# Altium schematic symbol library isa_opl2.SchLib: 20 symbols
Pins are listed as number, name and electrical type; pins without a type are passive.

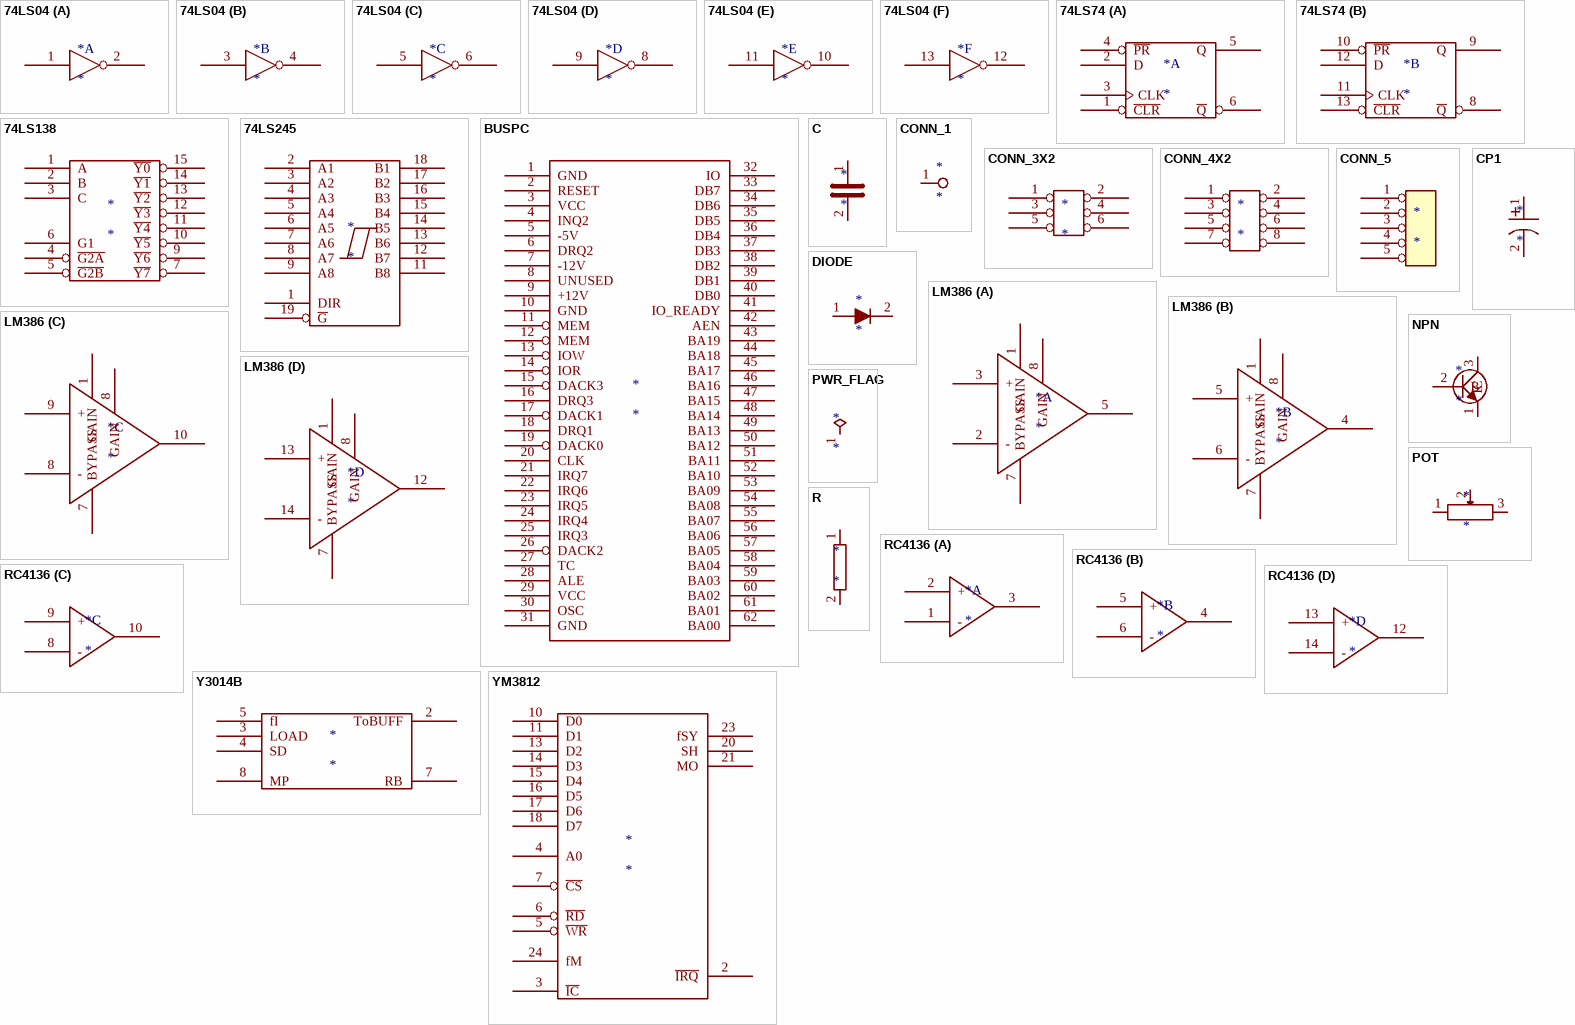
[diagram p0: symbols 74LS04 to YM3812]

## 74LS04
designator *
part A pins: 1, 2, 7 GND hidden, 14 VCC hidden
part B pins: 3, 4, 7 GND hidden, 14 VCC hidden
part C pins: 5, 6, 7 GND hidden, 14 VCC hidden
part D pins: 7 GND hidden, 8, 9, 14 VCC hidden
part E pins: 7 GND hidden, 10, 11, 14 VCC hidden
part F pins: 7 GND hidden, 12, 13, 14 VCC hidden
1 alternate drawing of the same symbol

## 74LS74
designator *
part A pins: 1 ~{CLR}, 2 D, 3 CLK, 4 ~{PR}, 5 Q, 6 ~{Q}, 7 GND hidden, 14 VCC hidden
part B pins: 7 GND hidden, 8 ~{Q}, 9 Q, 10 ~{PR}, 11 CLK, 12 D, 13 ~{CLR}, 14 VCC hidden

## 74LS138
designator *
pins: 1 A, 2 B, 3 C, 4 ~{G2A}, 5 ~{G2B}, 6 G1, 7 ~{Y7}, 8 GND hidden, 9 ~{Y6}, 10 ~{Y5}, 11 ~{Y4}, 12 ~{Y3}, 13 ~{Y2}, 14 ~{Y1}, 15 ~{Y0}, 16 VCC hidden

## 74LS245
designator *
pins: 1 DIR, 2 A1, 3 A2, 4 A3, 5 A4, 6 A5, 7 A6, 8 A7, 9 A8, 10 GND hidden, 11 B8, 12 B7, 13 B6, 14 B5, 15 B4, 16 B3, 17 B2, 18 B1, 19 ~{G}, 20 VCC hidden

## BUSPC
designator *
pins: 1 GND, 2 RESET, 3 VCC, 4 INQ2, 5 -5V, 6 DRQ2, 7 -12V, 8 UNUSED, 9 +12V, 10 GND, 11 MEM, 12 MEM, 13 IOW, 14 IOR, 15 DACK3, 16 DRQ3, 17 DACK1, 18 DRQ1, 19 DACK0, 20 CLK, 21 IRQ7, 22 IRQ6, 23 IRQ5, 24 IRQ4, 25 IRQ3, 26 DACK2, 27 TC, 28 ALE, 29 VCC, 30 OSC, 31 GND, 32 IO, 33 DB7, 34 DB6, 35 DB5, 36 DB4, 37 DB3, 38 DB2, 39 DB1, 40 DB0, 41 IO_READY, 42 AEN, 43 BA19, 44 BA18, 45 BA17, 46 BA16, 47 BA15, 48 BA14, 49 BA13, 50 BA12, 51 BA11, 52 BA10, 53 BA09, 54 BA08, 55 BA07, 56 BA06, 57 BA05, 58 BA04, 59 BA03, 60 BA02, 61 BA01, 62 BA00

## C
designator *
pins: 1, 2

## CONN_1
designator *
pins: 1

## CONN_3X2
designator *
pins: 1, 2, 3, 4, 5, 6

## CONN_4X2
designator *
pins: 1, 2, 3, 4, 5, 6, 7, 8

## CONN_5
designator *
pins: 1, 2, 3, 4, 5

## CP1
designator *
pins: 1, 2
text: +

## DIODE
designator *
pins: 1 A, 2 K

## LM386
designator *
part A pins: 1 GAIN, 2 -, 3 +, 4 GND hidden, 5, 6 VDD hidden, 7 BYPASS, 8 GAIN
part B pins: 1 GAIN, 4 GND hidden, 4, 5 +, 6 VDD hidden, 6 -, 7 BYPASS, 8 GAIN
part C pins: 1 GAIN, 4 GND hidden, 6 VDD hidden, 7 BYPASS, 8 -, 8 GAIN, 9 +, 10
part D pins: 1 GAIN, 4 GND hidden, 6 VDD hidden, 7 BYPASS, 8 GAIN, 12, 13 +, 14 -

## NPN
designator *
pins: 1 E, 2 B, 3 C

## POT
designator *
pins: 1, 2, 3

## PWR_FLAG
designator *  (graphical)
pins: 1 pwr

## R
designator *
pins: 1, 2

## RC4136
designator *
part A pins: 1 -, 2 +, 3, 7 VSS hidden, 11 VDD hidden
part B pins: 4, 5 +, 6 -, 7 VSS hidden, 11 VDD hidden
part C pins: 7 VSS hidden, 8 -, 9 +, 10, 11 VDD hidden
part D pins: 7 VSS hidden, 11 VDD hidden, 12, 13 +, 14 -

## Y3014B
designator *
pins: 1 VCC hidden, 2 ToBUFF, 3 LOAD, 4 SD, 5 fI, 6 GND hidden, 7 RB, 8 MP

## YM3812
designator *
pins: 1 VCC hidden, 2 ~{IRQ}, 3 ~{IC}, 4 A0, 5 ~{WR}, 6 ~{RD}, 7 ~{CS}, 10 D0, 11 D1, 12 GND hidden, 13 D2, 14 D3, 15 D4, 16 D5, 17 D6, 18 D7, 20 SH, 21 MO, 23 fSY, 24 fM